# EAGLE library part TLV61048 (library gost_micro)
TLV61048 14-V Output Voltage Non-synchronous Boost Converter
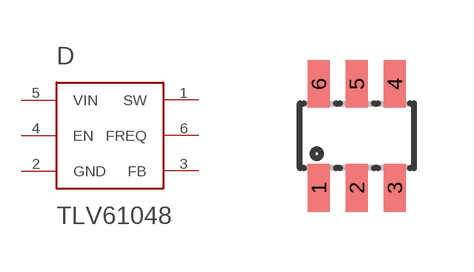
[diagram p26: symbol with the pads of SOT23-6L; footprint SOT23-6L]

Designator prefix D

## TLV61048  [SOT23-6L]
1  SW
2  GND
3  FB
4  EN
5  VIN
6  FREQ

## Footprint SOT23-6L (pad centres in mm)
smd 0.55 x 1.2: 1 -0.95,-1.3; 2 0,-1.3; 3 0.95,-1.3; 4 0.95,1.3; 5 0,1.3; 6 -0.95,1.3